# EAGLE library part AS5134 (library modular_robotics)
AS5134 A rotary magnetic encoder primarily used for serial comms and BLDC control
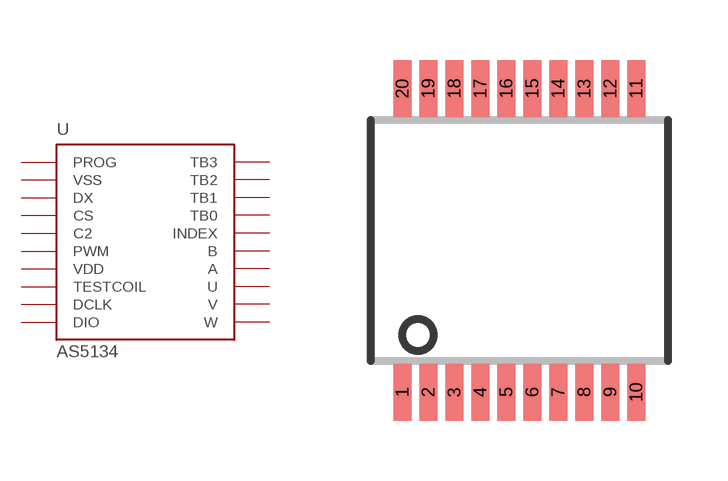
[diagram p11: symbol with the pads of AS5134; footprint AS5134]

Designator prefix -

## AS5134  [AS5134]
1  PROG  in
2  VSS  pwr
3  DX  in
4  CS  in
5  C2  in
6  PWM  out
7  VDD  pwr
8  TESTCOIL  hiz
9  DCLK  in
10  DIO
11  U  out
12  V  out
13  W  out
14  A  out
15  B  out
16  INDEX  out
17  TB0  hiz
18  TB1  hiz
19  TB2  hiz
20  TB3  hiz

## Footprint AS5134 (pad centres in mm)
AS5134 An austria microsystems 10 pin rotary magnetic encoder, used primarily for serial communication abilities and BLDC commutation
smd 0.46 x 1.43: 1 -2.925,-3.795; 2 -2.275,-3.795; 3 -1.625,-3.795; 4 -0.975,-3.795; 5 -0.325,-3.795; 6 0.325,-3.795; 7 0.975,-3.795; 8 1.625,-3.795; 9 2.275,-3.795; 10 2.925,-3.795; 11 2.925,3.795; 12 2.275,3.795; 13 1.625,3.795; 14 0.975,3.795; 15 0.325,3.795; 16 -0.325,3.795; 17 -0.975,3.795; 18 -1.625,3.795; 19 -2.275,3.795; 20 -2.925,3.795